# Altium schematic symbol library LM35.SchLib: 1 symbol
Pins are listed as number, name and electrical type; pins without a type are passive.

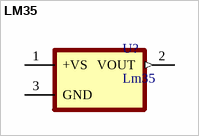
[diagram p0: symbol LM35]

## LM35
designator U?, comment Lm35
&plusmn;0.5&deg;C 4V-30V, Temperature sensor with analog output 3-TO-92; MF: Texas Instruments; MP: LM35CZ/LFT1; Value: *; SnapEDA_Link: https://www.snapeda.com/parts/LM35CZ/LFT1/Texas%20Instruments/view-part/18854/?ref=snap; Texas_Instruments-Purchase-URL: https://snapeda.com/shop?store=Texas+Instruments&id=18854; Availability: Warning; Price: None; Package: TO-92-3 Texas Instruments
footprint TO127P254X495-3P
pins: 1 +VS (power), 2 VOUT (out), 3 GND